# EAGLE library part ARDUINO-PRO-MICRO (library arduino-pro-micro)
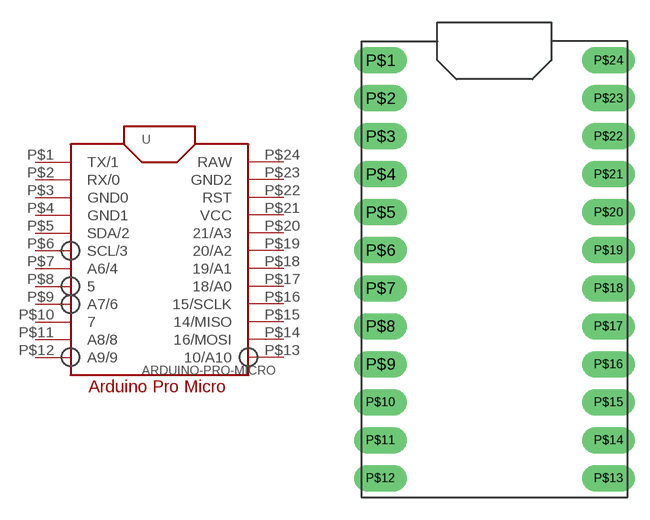
[diagram p0: symbol with the pads of ARDUINO-PRO-MICRO; footprint ARDUINO-PRO-MICRO]

Designator prefix -

## ARDUINO-PRO-MICRO  [ARDUINO-PRO-MICRO]
P$1  TX/1
P$2  RX/0
P$3  GND0  pwr
P$4  GND1  pwr
P$5  SDA/2
P$6  SCL/3
P$7  A6/4
P$8  5
P$9  A7/6
P$10  7
P$11  A8/8
P$12  A9/9
P$13  10/A10
P$14  16/MOSI
P$15  14/MISO
P$16  15/SCLK
P$17  18/A0
P$18  19/A1
P$19  20/A2
P$20  21/A3
P$21  VCC  pwr
P$22  RST
P$23  GND2  pwr
P$24  RAW  pwr

## Footprint ARDUINO-PRO-MICRO (pad centres in mm)
drill 0.8 pad 1.778 long: P$1 -7.62,15.24; P$2 -7.62,12.7; P$3 -7.62,10.16; P$4 -7.62,7.62; P$5 -7.62,5.08; P$6 -7.62,2.54; P$7 -7.62,0; P$8 -7.62,-2.54; P$9 -7.62,-5.08; P$10 -7.62,-7.62; P$11 -7.62,-10.16; P$12 -7.62,-12.7; P$13 7.62,-12.7; P$14 7.62,-10.16; P$15 7.62,-7.62; P$16 7.62,-5.08; P$17 7.62,-2.54; P$18 7.62,0; P$19 7.62,2.54; P$20 7.62,5.08; P$21 7.62,7.62; P$22 7.62,10.16; P$23 7.62,12.7; P$24 7.62,15.24